# Altium schematic symbol library symbols.SchLib: 17 symbols
Pins are listed as number, name and electrical type; pins without a type are passive.

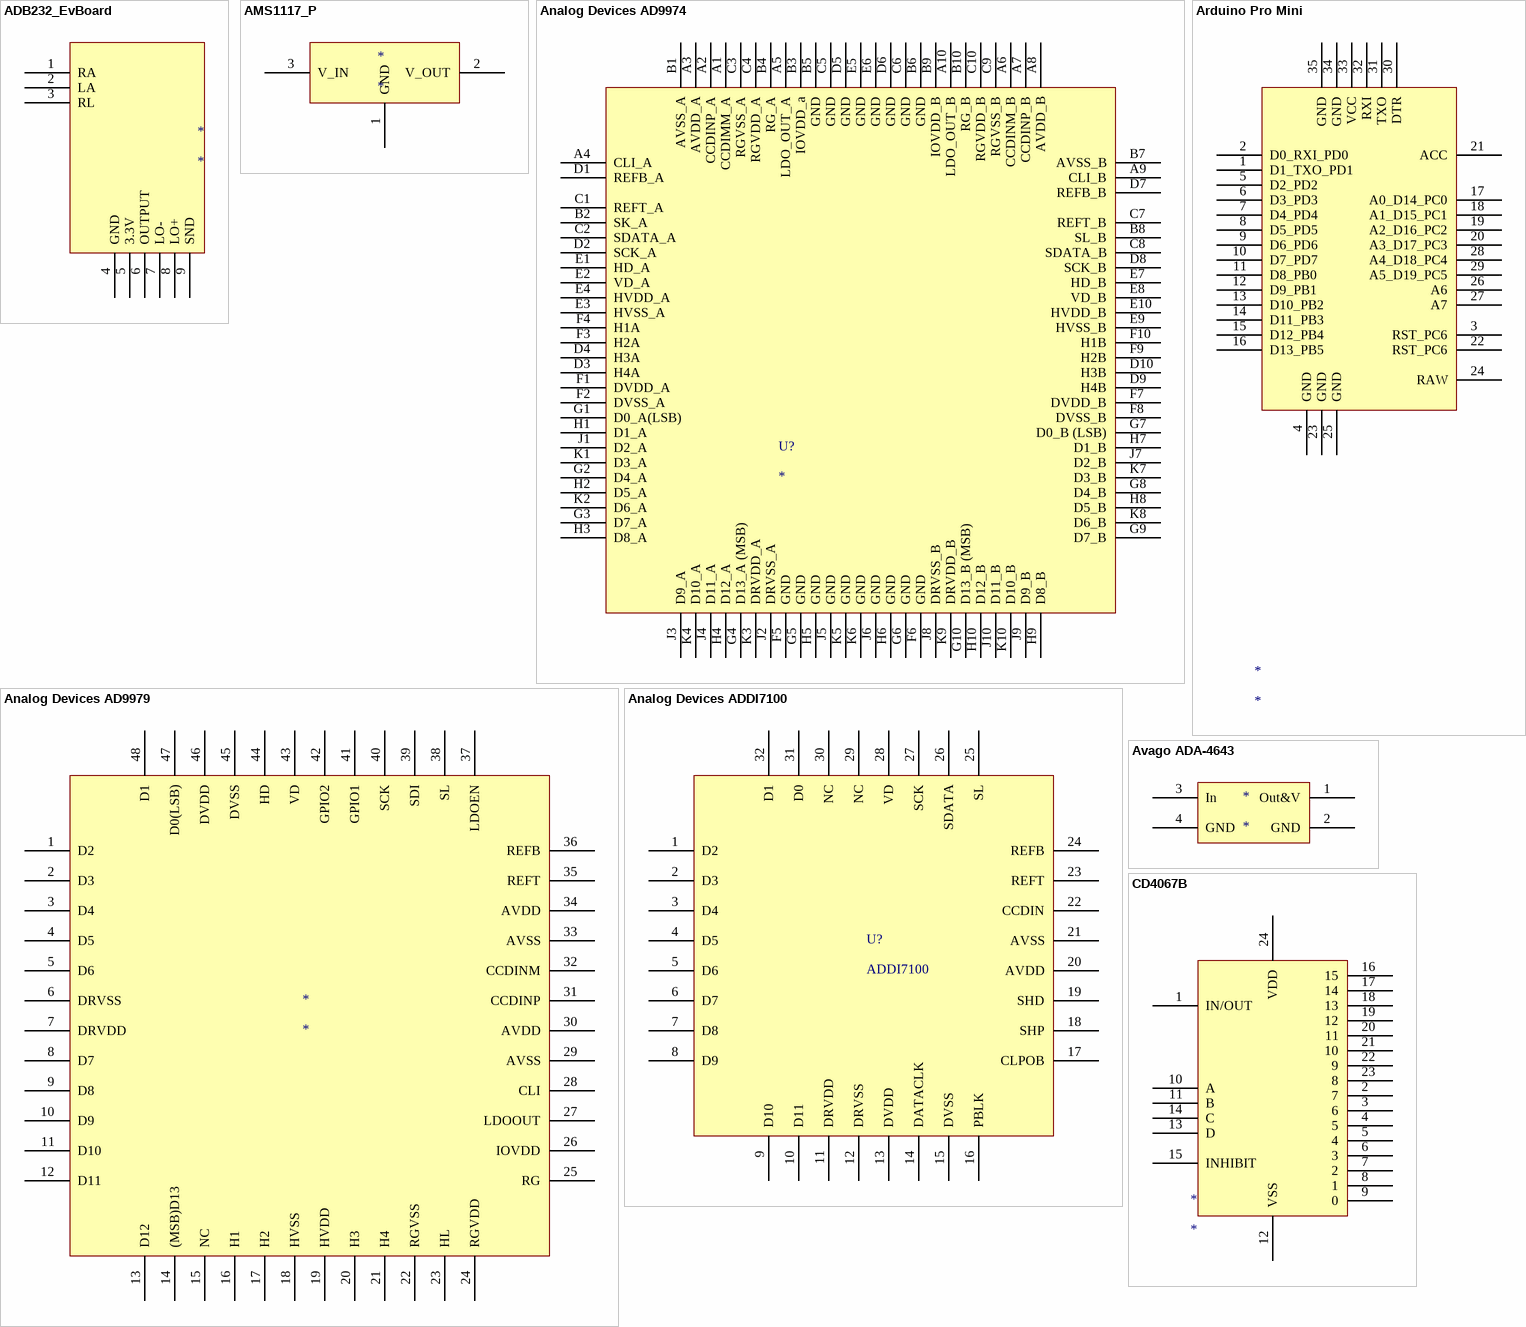
[diagram p0: symbols ADB232_EvBoard to CD4067B]

## ADB232_EvBoard
designator *
pins: 1 RA, 2 LA, 3 RL, 4 GND, 5 3.3V, 6 OUTPUT, 7 LO-, 8 LO+, 9 SND

## AMS1117_P
designator *
footprint SOT-223
pins: 1 GND, 2 V_OUT, 3 V_IN

## Analog Devices AD9974
designator U?
pins: A1 CCDIMM_A, A2 CCDINP_A, A3 AVDD_A, A4 CLI_A, A5 LDO_OUT_A, A6 CCDINM_B, A7 CCDINP_B, A8 AVDD_B, A9 CLI_B, A10 LDO_OUT_B, B1 AVSS_A, B2 SK_A, B3 IOVDD_a, B4 RG_A, B5 GND, B6 GND, B7 AVSS_B, B8 SL_B, B9 IOVDD_B, B10 RG_B, C1 REFT_A, C2 SDATA_A, C3 RGVSS_A, C4 RGVDD_A, C5 GND, C6 GND, C7 REFT_B, C8 SDATA_B, C9 RGVSS_B, C10 RGVDD_B, D1 REFB_A, D2 SCK_A, D3 H4A, D4 H3A, D5 GND, D6 GND, D7 REFB_B, D8 SCK_B, D9 H4B, D10 H3B, E1 HD_A, E2 VD_A, E3 HVSS_A, E4 HVDD_A, E5 GND, E6 GND, E7 HD_B, E8 VD_B, E9 HVSS_B, E10 HVDD_B, F1 DVDD_A, F2 DVSS_A, F3 H2A, F4 H1A, F5 GND, F6 GND, F7 DVDD_B, F8 DVSS_B, F9 H2B, F10 H1B, G1 D0_A(LSB), G2 D4_A, G3 D7_A, G4 D13_A (MSB), G5 GND, G6 GND, G7 D0_B (LSB), G8 D4_B, G9 D7_B, G10 D13_B (MSB), H1 D1_A, H2 D5_A, H3 D8_A, H4 D12_A, H5 GND, H6 GND, H7 D1_B, H8 D5_B, H9 D8_B, H10 D12_B, J1 D2_A, J2 DRVSS_A, J3 D9_A, J4 D11_A, J5 GND, J6 GND, J7 D2_B, J8 DRVSS_B, J9 D9_B, J10 D11_B, K1 D3_A, K2 D6_A, K3 DRVDD_A, K4 D10_A, K5 GND, K6 GND, K7 D3_B, K8 D6_B, K9 DRVDD_B, K10 D10_B
1 alternate drawing of the same symbol

## Analog Devices AD9979
designator *
footprint QFN-48
pins: 1 D2, 2 D3, 3 D4, 4 D5, 5 D6, 6 DRVSS, 7 DRVDD, 8 D7, 9 D8, 10 D9, 11 D10, 12 D11, 13 D12, 14 (MSB)D13, 15 NC, 16 H1, 17 H2, 18 HVSS, 19 HVDD, 20 H3, 21 H4, 22 RGVSS, 23 HL, 24 RGVDD, 25 RG, 26 IOVDD, 27 LDOOUT, 28 CLI, 29 AVSS, 30 AVDD, 31 CCDINP, 32 CCDINM, 33 AVSS, 34 AVDD, 35 REFT, 36 REFB, 37 LDOEN, 38 SL, 39 SDI, 40 SCK, 41 GPIO1, 42 GPIO2, 43 VD, 44 HD, 45 DVSS, 46 DVDD, 47 D0(LSB), 48 D1

## Analog Devices ADDI7100
designator U?, comment ADDI7100
footprint QFN-32
pins: 1 D2, 2 D3, 3 D4, 4 D5, 5 D6, 6 D7, 7 D8, 8 D9, 9 D10, 10 D11, 11 DRVDD, 12 DRVSS, 13 DVDD, 14 DATACLK, 15 DVSS, 16 PBLK, 17 CLPOB, 18 SHP, 19 SHD, 20 AVDD, 21 AVSS, 22 CCDIN, 23 REFT, 24 REFB, 25 SL, 26 SDATA, 27 SCK, 28 VD, 29 NC, 30 NC, 31 D0, 32 D1

## Arduino Pro Mini
designator *
footprint Arduino Pro Mini
pins: 1 D1_TXO_PD1, 2 D0_RXI_PD0, 3 RST_PC6, 4 GND, 5 D2_PD2, 6 D3_PD3, 7 D4_PD4, 8 D5_PD5, 9 D6_PD6, 10 D7_PD7, 11 D8_PB0, 12 D9_PB1, 13 D10_PB2, 14 D11_PB3, 15 D12_PB4, 16 D13_PB5, 17 A0_D14_PC0, 18 A1_D15_PC1, 19 A2_D16_PC2, 20 A3_D17_PC3, 21 ACC, 22 RST_PC6, 23 GND, 24 RAW, 25 GND, 26 A6, 27 A7, 28 A4_D18_PC4, 29 A5_D19_PC5, 30 DTR, 31 TXO, 32 RXI, 33 VCC, 34 GND, 35 GND

## Avago ADA-4643
designator *
footprint SOT343
pins: 1 Out&V, 2 GND, 3 In, 4 GND

## CD4067B
designator *
footprint DIP24_p
footprint so24_p
pins: 1 IN/OUT, 2 7, 3 6, 4 5, 5 4, 6 3, 7 2, 8 1, 9 0, 10 A, 11 B, 12 VSS, 13 D, 14 C, 15 INHIBIT, 16 15, 17 14, 18 13, 19 12, 20 11, 21 10, 22 9, 23 8, 24 VDD

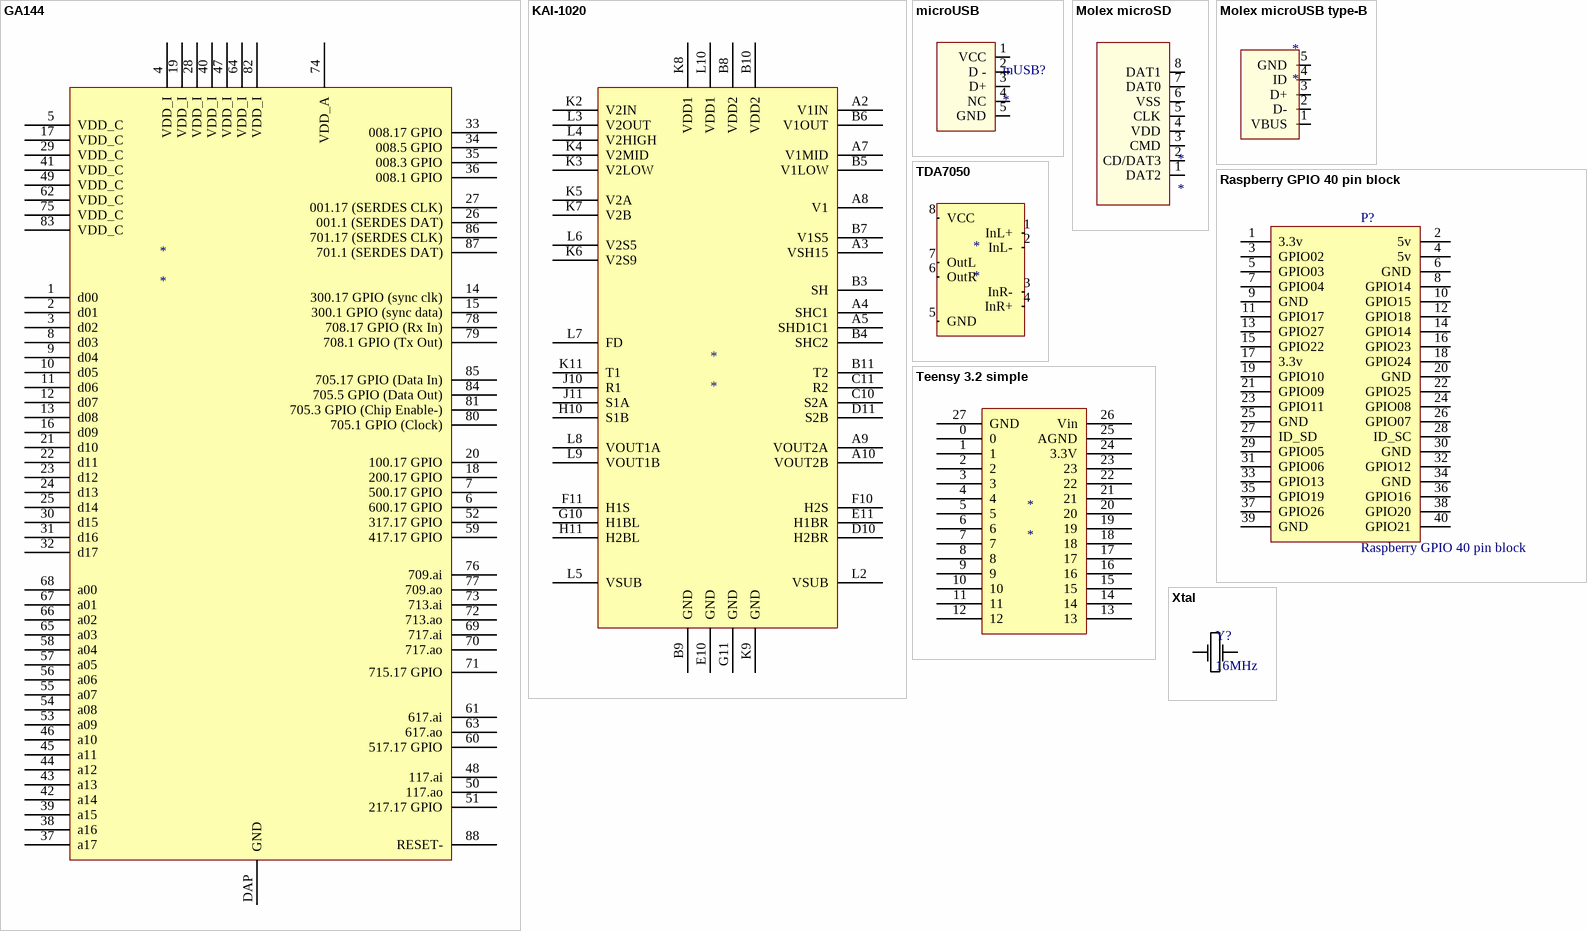
[diagram p1: symbols GA144 to Xtal]

## GA144
designator *
footprint QFN_GA144
pins: 1 d00, 2 d01, 3 d02, 4 VDD_I, 5 VDD_C, 6 600.17 GPIO, 7 500.17 GPIO, 8 d03, 9 d04, 10 d05, 11 d06, 12 d07, 13 d08, 14 300.17 GPIO (sync clk), 15 300.1 GPIO (sync data), 16 d09, 17 VDD_C, 18 200.17 GPIO, 19 VDD_I, 20 100.17 GPIO, 21 d10, 22 d11, 23 d12, 24 d13, 25 d14, 26 001.1 (SERDES DAT), 27 001.17 (SERDES CLK), 28 VDD_I, 29 VDD_C, 30 d15, 31 d16, 32 d17, 33 008.17 GPIO, 34 008.5 GPIO, 35 008.3 GPIO, 36 008.1 GPIO, 37 a17, 38 a16, 39 a15, 40 VDD_I, 41 VDD_C, 42 a14, 43 a13, 44 a12, 45 a11, 46 a10, 47 VDD_I, 48 117.ai, 49 VDD_C, 50 117.ao, 51 217.17 GPIO, 52 317.17 GPIO, 53 a09, 54 a08, 55 a07, 56 a06, 57 a05, 58 a04, 59 417.17 GPIO, 60 517.17 GPIO, 61 617.ai, 62 VDD_C, 63 617.ao, 64 VDD_I, 65 a03, 66 a02, 67 a01, 68 a00, 69 717.ai, 70 717.ao, 71 715.17 GPIO, 72 713.ao, 73 713.ai, 74 VDD_A, 75 VDD_C, 76 709.ai, 77 709.ao, 78 708.17 GPIO (Rx In), 79 708.1 GPIO (Tx Out), 80 705.1 GPIO (Clock), 81 705.3 GPIO (Chip Enable-), 82 VDD_I, 83 VDD_C, 84 705.5 GPIO (Data Out), 85 705.17 GPIO (Data In), 86 701.17 (SERDES CLK), 87 701.1 (SERDES DAT), 88 RESET-, DAP GND

## KAI-1020
designator *
footprint PGA_for_KAI-1020
pins: A2 V1IN, A3 VSH15, A4 SHC1, A5 SHD1C1, A7 V1MID, A8 V1, A9 VOUT2A, A10 VOUT2B, B3 SH, B4 SHC2, B5 V1LOW, B6 V1OUT, B7 V1S5, B8 VDD2, B9 GND, B10 VDD2, B11 T2, C10 S2A, C11 R2, D10 H2BR, D11 S2B, E10 GND, E11 H1BR, F10 H2S, F11 H1S, G10 H1BL, G11 GND, H10 S1B, H11 H2BL, J10 R1, J11 S1A, K2 V2IN, K3 V2LOW, K4 V2MID, K5 V2A, K6 V2S9, K7 V2B, K8 VDD1, K9 GND, K11 T1, L2 VSUB, L3 V2OUT, L4 V2HIGH, L5 VSUB, L6 V2S5, L7 FD, L8 VOUT1A, L9 VOUT1B, L10 VDD1

## microUSB
designator mUSB?
footprint microUSB_p
pins: 1 VCC, 2 D -, 3 D+, 4 NC, 5 GND

## Molex microSD
designator *
footprint MOLEX_MICROSD
pins: 1 DAT2, 2 CD/DAT3, 3 CMD, 4 VDD, 5 CLK, 6 VSS, 7 DAT0, 8 DAT1

## Molex microUSB type-B
designator *
footprint Molex_microUSB_type-B
pins: 1 VBUS, 2 D-, 3 D+, 4 ID, 5 GND

## Raspberry GPIO 40 pin block
designator P?
LatestRevisionDate: 17-Jul-2002; LatestRevisionNote: Re-released for DXP Platform.; Publisher: Altium Limited
footprint HDR2X20 (Connector; Header; 20x2 Position)
signal-integrity model Connector
pins: 1 3.3v, 2 5v, 3 GPIO02, 4 5v, 5 GPIO03, 6 GND, 7 GPIO04, 8 GPIO14, 9 GND, 10 GPIO15, 11 GPIO17, 12 GPIO18, 13 GPIO27, 14 GPIO14, 15 GPIO22, 16 GPIO23, 17 3.3v, 18 GPIO24, 19 GPIO10, 20 GND, 21 GPIO09, 22 GPIO25, 23 GPIO11, 24 GPIO08, 25 GND, 26 GPIO07, 27 ID_SD, 28 ID_SC, 29 GPIO05, 30 GND, 31 GPIO06, 32 GPIO12, 33 GPIO13, 34 GND, 35 GPIO19, 36 GPIO16, 37 GPIO26, 38 GPIO20, 39 GND, 40 GPIO21

## TDA7050
designator *
footprint SOP8
footprint SOP8_p
pins: 1 InL+, 2 InL-, 3 InR-, 4 InR+, 5 GND, 6 OutR, 7 OutL, 8 VCC

## Teensy 3.2 simple
designator *
footprint DIP28_teensy_simple
pins: 0, 1, 2, 3, 4, 5, 6, 7, 8, 9, 10, 11, 12, 13, 14, 15, 16, 17, 18, 19, 20, 21, 22, 23, 24 3.3V, 25 AGND, 26 Vin, 27 GND

## Xtal
designator Y?, comment 16MHz
Quartz crystal
footprint HC-49SM_p
footprint HC-49S_p
pins: 1, 2